# Altium footprint library ONSC-D2PAK-3-418B-04_V.PcbLib: 1 footprints
Each footprint in its own frame and in the unit in brackets; x right, y up, seen from the top. Pads: shape width x height; smd on the part's side, far side on the other; paste and mask are expansions set on the pad; w line width, h text height; cw(c..) or ccw(c..) is an arc to the next point about the centre after c.
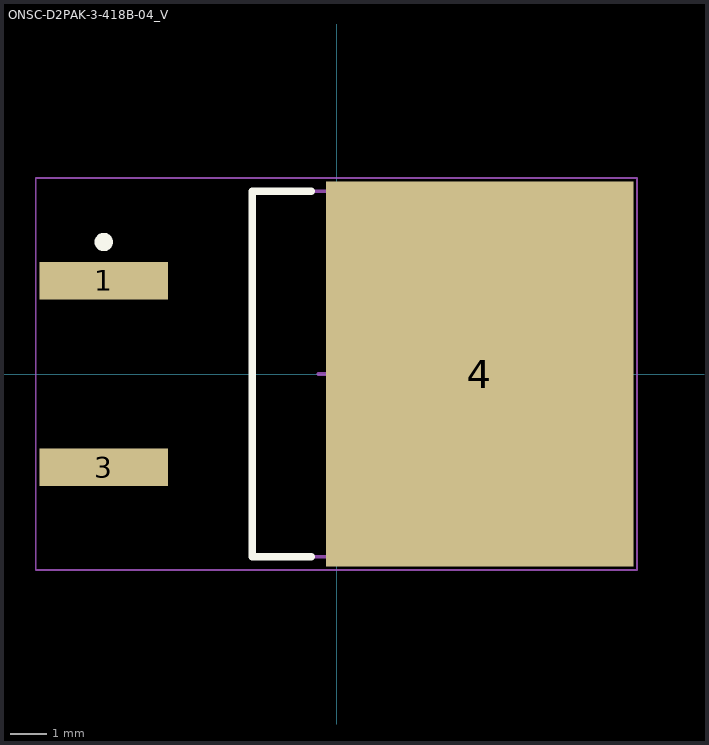
[diagram p0: the footprint, top view; thin cyan lines are the x and y axes]

## ONSC-D2PAK-3-418B-04_V [mm]
pads (3):
  rect 3.504x1.016 smd: 1(-6.35,2.54) 3(-6.35,-2.54)
  rect 8.38x10.49 smd: 4(3.9,0)
Top Overlay:
  circle w0.25: c-6.35,3.598 r0.125
  lines w0.2: -0.69,-4.985 -2.3,-4.985 -2.3,4.985 -0.69,4.985
Mechanical 13:
  lines w0.05: -8.202,-5.345 8.19,-5.345 8.19,5.345 -8.202,5.345 -8.202,-5.345
  lines w0.1: -0.5,0 0.5,0 ; 0,-0.5 0,0.5 ; -2.3,-4.985 6.845,-4.985 6.845,4.985 -2.3,4.985 -2.3,-4.985
3D body "step_temp.STEP": height 4.57, standoff 0, extent -5.01,-7.099 5.01,7.099